# Altium footprint library PcbLib1.PcbLib: 28 footprints (part 1 of 2)
Each footprint in its own frame and in the unit in brackets; x right, y up, seen from the top. Pads: shape width x height; smd on the part's side, far side on the other; paste and mask are expansions set on the pad; w line width, h text height; cw(c..) or ccw(c..) is an arc to the next point about the centre after c.
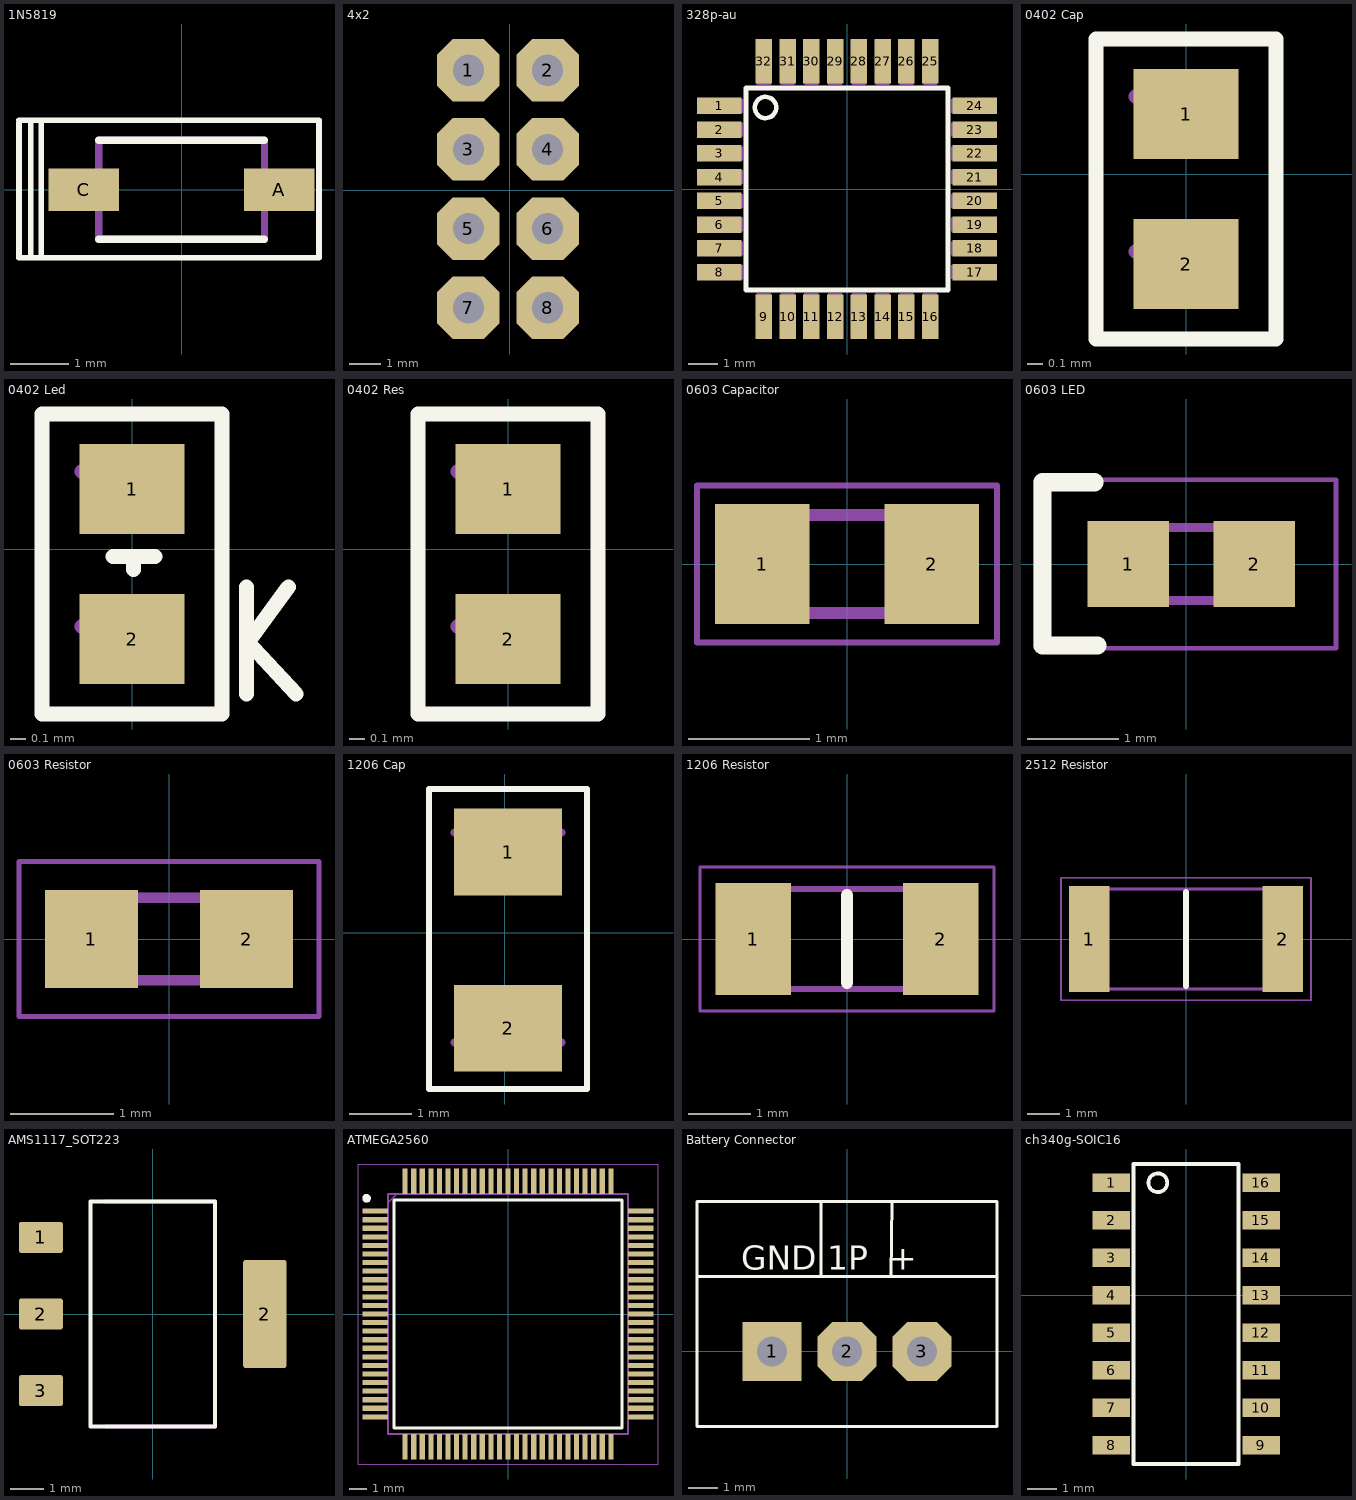
[diagram p0: the footprints below, top view; thin cyan lines are the x and y axes]

## 1N5819 [mm]
pads (2):
  rect 1.21x0.73 smd: A(1.68,0) C(-1.68,0)
Top Overlay:
  lines w0.1: -2.794,-1.168 -2.591,-1.168 ; -2.794,-1.143 -2.794,1.143 ; -2.794,1.194 -2.591,1.194 2.362,1.194 2.362,-1.168 -2.591,-1.168 ; -2.591,1.168 -2.591,-1.168 ; -2.413,-1.143 -2.413,1.143
  lines w0.127: -1.425,-0.85 1.425,-0.85 ; -1.425,0.85 1.425,0.85
Mechanical 13:
  lines w0.127: -1.425,-0.85 1.425,-0.85 1.425,0.85 -1.425,0.85 -1.425,-0.85
3D body "CircuitWorks-SOD123.step": height 1.27, standoff 0, extent -1.85,-0.8 1.85,0.8

## 4x2 [mm]
pads (8):
  oct 2x2 hole 1: 1(-1.321,3.849) 2(1.219,3.849) 3(-1.321,1.309) 4(1.219,1.309) 5(-1.321,-1.231) 6(1.219,-1.231) 7(-1.321,-3.771) 8(1.219,-3.771)

## 328p-au [mm]
pads (32):
  rect 1.5x0.55 smd: 1(-4.3,2.8) 2(-4.3,2) 3(-4.3,1.2) 4(-4.3,0.4) 5(-4.3,-0.4) 6(-4.3,-1.2) 7(-4.3,-2) 8(-4.3,-2.8) 17(4.3,-2.8) 18(4.3,-2) 19(4.3,-1.2) 20(4.3,-0.4) 21(4.3,0.4) 22(4.3,1.2) 23(4.3,2) 24(4.3,2.8)
  rect 0.55x1.5 smd: 9(-2.8,-4.3) 10(-2,-4.3) 11(-1.2,-4.3) 12(-0.4,-4.3) 13(0.4,-4.3) 14(1.2,-4.3) 15(2,-4.3) 16(2.8,-4.3) 25(2.8,4.3) 26(2,4.3) 27(1.2,4.3) 28(0.4,4.3) 29(-0.4,4.3) 30(-1.2,4.3) 31(-2,4.3) 32(-2.8,4.3)
Top Overlay:
  circle w0.152: c-2.743,2.743 r0.359
  lines w0.152: -3.4,-3.4 3.4,-3.4 3.4,3.4 -3.4,3.4 -3.4,-3.4
Mechanical 13:
  region: -3.506,2.572 -4.497,2.572 -4.497,3.029 -3.506,3.029
  region: -3.506,1.775 -4.505,1.775 -4.505,2.229 -3.506,2.229
  region: -3.506,0.972 -4.5,0.972 -4.5,1.429 -3.506,1.429
  region: -3.506,0.172 -4.5,0.172 -4.5,0.629 -3.506,0.629
  region: -3.506,-0.629 -4.503,-0.629 -4.503,-0.171 -3.506,-0.171
  region: -3.506,-1.43 -4.502,-1.43 -4.502,-0.971 -3.506,-0.971
  region: -3.506,-2.231 -4.501,-2.231 -4.501,-1.771 -3.506,-1.771
  region: -3.506,-3.032 -4.501,-3.032 -4.501,-2.571 -3.506,-2.571
  region: -2.571,-4.505 -3.035,-4.505 -3.035,-3.506 -2.571,-3.506
  region: -1.771,-4.5 -2.23,-4.5 -2.23,-3.506 -1.771,-3.506
  region: -0.971,-4.504 -1.431,-4.504 -1.431,-3.506 -0.971,-3.506
  region: -0.171,-4.498 -0.629,-4.498 -0.629,-3.506 -0.171,-3.506
  region: 0.629,-4.502 0.172,-4.502 0.172,-3.506 0.629,-3.506
  region: 1.429,-4.498 0.972,-4.498 0.972,-3.506 1.429,-3.506
  region: 2.229,-4.504 1.774,-4.504 1.774,-3.506 2.229,-3.506
  region: 3.029,-4.503 2.575,-4.503 2.575,-3.506 3.029,-3.506
  region: 4.497,-3.029 3.507,-3.029 3.507,-2.571 4.497,-2.571
  region: 4.497,-2.233 3.513,-2.233 3.513,-1.771 4.497,-1.771
  region: 4.497,-1.431 3.511,-1.431 3.511,-0.971 4.497,-0.971
  region: 4.497,-0.629 3.509,-0.629 3.509,-0.171 4.497,-0.171
  region: 4.497,0.172 3.509,0.172 3.509,0.629 4.497,0.629
  region: 4.497,0.973 3.511,0.973 3.511,1.429 4.497,1.429
  region: 4.497,1.774 3.511,1.774 3.511,2.229 4.497,2.229
  region: 4.497,2.575 3.511,2.575 3.511,3.029 4.497,3.029
  region: 3.029,3.513 2.576,3.513 2.576,4.497 3.029,4.497
  region: 2.229,3.511 1.774,3.511 1.774,4.497 2.229,4.497
  region: 1.429,3.509 0.972,3.509 0.972,4.497 1.429,4.497
  region: 0.629,3.506 0.171,3.506 0.171,4.497 0.629,4.497
  region: -0.171,3.513 -0.63,3.513 -0.63,4.497 -0.171,4.497
  region: -0.971,3.508 -1.43,3.508 -1.43,4.497 -0.971,4.497
  region: -1.771,3.512 -2.233,3.512 -2.233,4.497 -1.771,4.497
  region: -2.571,3.509 -3.032,3.509 -3.032,4.497 -2.571,4.497
3D body "ATmega_AP214.STEP": height 1, standoff -0.1, extent -4.5,-4.498 4.495,4.498

## 0402 Cap [mm]
pads (2):
  rect 0.7x0.6 smd: 1(0,0.4) 2(0,-0.6)
Top Overlay:
  lines w0.1: -0.6,-1.1 -0.6,0.9 0.6,0.9 0.6,-1.1 -0.6,-1.1
Mechanical 13:
  lines w0.1: -0.333,-0.515 0.187,-0.515 ; -0.333,0.515 0.187,0.515
3D body "0402 cap.STEP": height 0.52, standoff 0, extent -0.262,-0.6 0.262,0.4

## 0402 Led [mm]
pads (2):
  rect 0.7x0.6 smd: 1(0,0.4) 2(0,-0.6)
Top Overlay:
  lines w0.1: -0.127,-0.051 0.152,-0.051 ; 0.011,-0.136 0.013,-0.051 ; 0.762,-0.965 0.762,-0.254 ; 0.762,-0.635 1.041,-0.254 ; 0.762,-0.61 1.092,-0.965 ; -0.6,-1.1 -0.6,0.9 0.6,0.9 0.6,-1.1 -0.6,-1.1
Mechanical 13:
  lines w0.1: -0.333,-0.515 0.187,-0.515 ; -0.333,0.515 0.187,0.515
3D body "User Library-LED_1006_W.STEP": height 0.2, standoff 0, extent -0.3,-0.602 0.3,0.399

## 0402 Res [mm]
pads (2):
  rect 0.7x0.6 smd: 1(0,0.4) 2(0,-0.6)
Top Overlay:
  lines w0.1: -0.6,-1.1 0.6,-1.1 0.6,0.9 -0.6,0.9 -0.6,-1.1
Mechanical 13:
  lines w0.1: -0.333,-0.515 0.187,-0.515 ; -0.333,0.515 0.187,0.515
3D body "0402 resistor.STEP": height 0.35, standoff 0, extent -0.25,-0.6 0.25,0.4

## 0603 Capacitor [mm]
pads (2):
  rect 0.78x0.99 smd: 1(-0.7,0) 2(0.7,0)
Mechanical 13:
  lines w0.1: -0.8,-0.405 -0.8,0.405 0.8,0.405 0.8,-0.405 -0.8,-0.405
Mechanical 15:
  lines w0.05: -1.24,-0.65 -1.24,0.65 1.24,0.65 1.24,-0.65 -1.24,-0.65
3D body "06031A120JAT2A.stp": height 0.9, standoff 0, extent -0.8,-0.405 0.8,0.405

## 0603 LED [mm]
pads (2):
  rect 0.9x0.95 smd: 1(-0.635,0) 2(0.75,0)
Top Overlay:
  lines w0.2: -1.5,-0.895 -0.975,-0.895 -1.579,-0.895 -1.579,0.9 -1.005,0.9
Mechanical 13:
  lines w0.1: -0.8,0.133 -0.533,0.4 ; -0.8,-0.4 -0.8,0.4 0.8,0.4 0.8,-0.4 -0.8,-0.4
Mechanical 15:
  lines w0.05: -1.65,-0.925 -1.65,0.925 1.65,0.925 1.65,-0.925 -1.65,-0.925

## 0603 Resistor [mm]
pads (2):
  rect 0.9x0.95 smd: 1(-0.75,0) 2(0.75,0)
Mechanical 13:
  lines w0.1: -0.775,-0.4 0.775,-0.4 0.775,0.4 -0.775,0.4 -0.775,-0.4
Mechanical 15:
  lines w0.05: -1.45,-0.75 1.45,-0.75 1.45,0.75 -1.45,0.75 -1.45,-0.75
3D body "CPF0603B100RE1.stp": height 0.55, standoff 0, extent -0.775,-0.4 0.775,0.4

## 1206 Cap [mil]
pads (2):
  rect 68.5x55 smd: 1(2,51) 2(2,-60.48)
Top Overlay:
  lines w3.94: -48,-99 52,-99 52,91 -48,91 -48,-99
Mechanical 13:
  lines w5: -31.86,-69.54 35.86,-69.54 ; -31.86,63.54 35.86,63.54
3D body "User Library-Vhip cap 1206.step": height 69.25, standoff 0.75, extent -31.93,-65.99 35,59.99

## 1206 Resistor [mm]
pads (2):
  rect 1.2x1.8 smd: 1(-1.5,0) 2(1.5,0)
Top Overlay:
  lines w0.2: 0,-0.7 0,0.7
Mechanical 13:
  lines w0.1: -1.6,-0.8 -1.6,0.8 1.6,0.8 1.6,-0.8 -1.6,-0.8
Mechanical 15:
  lines w0.05: -2.35,-1.15 -2.35,1.15 2.35,1.15 2.35,-1.15 -2.35,-1.15
3D body "CR1206-FX-10R0ELF.stp": height 0.75, standoff 0, extent -1.6,-0.8 1.6,0.8

## 2512 Resistor [mm]
pads (2):
  rect 1.25x3.3 smd: 1(-3,0) 2(3,0)
Top Overlay:
  lines w0.2: 0,-1.45 0,1.45
Mechanical 13:
  lines w0.1: -3.15,-1.55 3.15,-1.55 3.15,1.55 -3.15,1.55 -3.15,-1.55
Mechanical 15:
  lines w0.05: -3.875,-1.9 3.875,-1.9 3.875,1.9 -3.875,1.9 -3.875,-1.9
3D body "CR2512-F_-1R00ELF.stp": height 0.75, standoff 0, extent -3.15,-1.55 3.15,1.55

## AMS1117_SOT223 [mm]
pads (4):
  rrect15% 1.31x0.93 smd: 1(-3.345,2.29) 2(-3.345,0) 3(-3.345,-2.29)
  rrect15% 1.31x3.24 smd: 2(3.345,0)
Top Overlay:
  lines w0.127: -1.86,-3.36 -1.86,-3.11 -1.86,3.1 -1.86,3.36 1.86,3.36 1.86,1.76 1.86,-1.87 1.86,-3.36 -1.86,-3.36
Mechanical 13:
  lines w0.127: -1.397,-3.36 1.86,-3.36 ; -1.397,3.36 1.86,3.36
3D body "User Library-AMS1117-1.step": height 1.84, standoff -0.03, extent -3.373,-3.252 3.627,3.253

## ATMEGA2560 [mm]
pads (100):
  rect 1.5x0.3 smd: 1(-7.75,6) 2(-7.75,5.5) 3(-7.75,5) 4(-7.75,4.5) 5(-7.75,4) 6(-7.75,3.5) 7(-7.75,3) 8(-7.75,2.5) 9(-7.75,2) 10(-7.75,1.5) 11(-7.75,1) 12(-7.75,0.5) 13(-7.75,0) 14(-7.75,-0.5) 15(-7.75,-1) 16(-7.75,-1.5) 17(-7.75,-2) 18(-7.75,-2.5) 19(-7.75,-3) 20(-7.75,-3.5) 21(-7.75,-4) 22(-7.75,-4.5) 23(-7.75,-5) 24(-7.75,-5.5) 25(-7.75,-6) 51(7.75,-6) 52(7.75,-5.5) 53(7.75,-5) 54(7.75,-4.5) 55(7.75,-4) 56(7.75,-3.5) 57(7.75,-3) 58(7.75,-2.5) 59(7.75,-2) 60(7.75,-1.5) 61(7.75,-1) 62(7.75,-0.5) 63(7.75,0) 64(7.75,0.5) 65(7.75,1) 66(7.75,1.5) 67(7.75,2) 68(7.75,2.5) 69(7.75,3) 70(7.75,3.5) 71(7.75,4) 72(7.75,4.5) 73(7.75,5) 74(7.75,5.5) 75(7.75,6)
  rect 0.3x1.5 smd: 26(-6,-7.75) 27(-5.5,-7.75) 28(-5,-7.75) 29(-4.5,-7.75) 30(-4,-7.75) 31(-3.5,-7.75) 32(-3,-7.75) 33(-2.5,-7.75) 34(-2,-7.75) 35(-1.5,-7.75) 36(-1,-7.75) 37(-0.5,-7.75) 38(0,-7.75) 39(0.5,-7.75) 40(1,-7.75) 41(1.5,-7.75) 42(2,-7.75) 43(2.5,-7.75) 44(3,-7.75) 45(3.5,-7.75) 46(4,-7.75) 47(4.5,-7.75) 48(5,-7.75) 49(5.5,-7.75) 50(6,-7.75) 76(6,7.75) 77(5.5,7.75) 78(5,7.75) 79(4.5,7.75) 80(4,7.75) 81(3.5,7.75) 82(3,7.75) 83(2.5,7.75) 84(2,7.75) 85(1.5,7.75) 86(1,7.75) 87(0.5,7.75) 88(0,7.75) 89(-0.5,7.75) 90(-1,7.75) 91(-1.5,7.75) 92(-2,7.75) 93(-2.5,7.75) 94(-3,7.75) 95(-3.5,7.75) 96(-4,7.75) 97(-4.5,7.75) 98(-5,7.75) 99(-5.5,7.75) 100(-6,7.75)
Top Overlay:
  circle w0.25: c-8.25,6.75 r0.125
  lines w0.2: -6.65,-6.65 6.65,-6.65 6.65,6.65 -6.65,6.65 -6.65,-6.65
Mechanical 13:
  lines w0.1: -7,6.5 -6.5,7 ; -7,-7 7,-7 7,7 -7,7 -7,-7
Mechanical 15:
  lines w0.05: -8.75,-8.75 8.75,-8.75 8.75,8.75 -8.75,8.75 -8.75,-8.75
3D body "ATMEGA2560-16AU.stp": height 1.2, standoff 0, extent -8,-8 8,8

## Battery Connector [mm]
pads (3):
  rect 2x2 hole 1: 1(-2.54,0)
  oct 2x2 hole 1: 2(0,0) 3(2.54,0)
Top Overlay:
  lines w0.1: -0.888,5.06 -0.879,2.589 ; 1.489,2.57 1.517,5.079 ; -5.08,2.54 -5.08,5.08 5.08,5.08 5.08,2.54 ; -5.08,2.54 5.08,2.54 ; -5.08,2.54 -5.08,-2.54 5.08,-2.54 5.08,2.54
  text "GND 1P  +" at -3.574,2.767 h0.81

## ch340g-SOIC16 [mm]
pads (16):
  rect 1.27x0.635 smd: 1(-2.54,3.81) 2(-2.54,2.54) 3(-2.54,1.27) 4(-2.54,0) 5(-2.54,-1.27) 6(-2.54,-2.54) 7(-2.54,-3.81) 8(-2.54,-5.08) 9(2.54,-5.08) 10(2.54,-3.81) 11(2.54,-2.54) 12(2.54,-1.27) 13(2.54,0) 14(2.54,1.27) 15(2.54,2.54) 16(2.54,3.81)
Top Overlay:
  circle w0.127: c-0.953,3.81 r0.318
  lines w0.127: -1.778,-5.715 -1.778,4.445 1.778,4.445 1.778,-5.715 -1.778,-5.715
3D body "User Library-so16.step": height 1.7, standoff 0, extent -2.9,-5.7 3.1,4.5